# Altium schematic symbol library LM4675.SchLib: 1 symbol
Pins are listed as number, name and electrical type; pins without a type are passive.

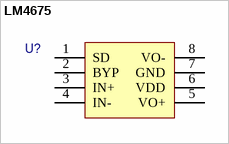
[diagram p0: symbol LM4675]

## LM4675
designator U?
pins: 1 SD, 2 BYP, 3 IN+, 4 IN-, 5 VO+, 6 VDD, 7 GND, 8 VO-
1 alternate drawing of the same symbol